# EAGLE library part LMV112 (library RFWBBoard)
LMV112 Clock Buffer Texas Instruments (National Semiconductor) LMV112 40 MHz Dual Clock Buffer Source: http://www.ti.com/lit/ds/symlink/lmv112.pdf
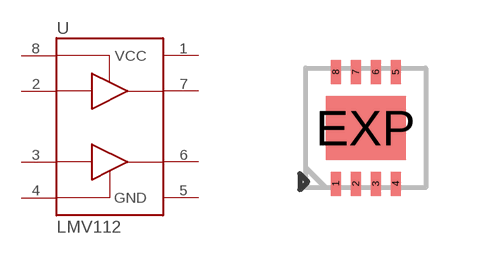
[diagram p7: symbol with the pads of LLP-8; footprint LLP-8]

Designator prefix U

## LMV112 (FREQ: 40 MHz)  [LLP-8]
1  VCC  pwr
2  IN1  in
3  IN2  in
4  EN2  in
5  GND  pwr
6  OUT2  out
7  OUT1  out
8  EN1  in

## Footprint LLP-8 (pad centres in mm)
LLP-8 (WFDFN-8) Exposed Pad Source: http://www.ti.com/lit/ds/symlink/lmv112.pdf
smd 0.25 x 0.6: 1 -0.75,-1.4; 2 -0.25,-1.4; 3 0.25,-1.4; 4 0.75,-1.4; 5 0.75,1.4; 6 0.25,1.4; 7 -0.25,1.4; 8 -0.75,1.4
smd 2 x 1.6: EXP 0,0